# EAGLE library part MICRO_BCU_7_2.54 (library MicroBCU_PCB)
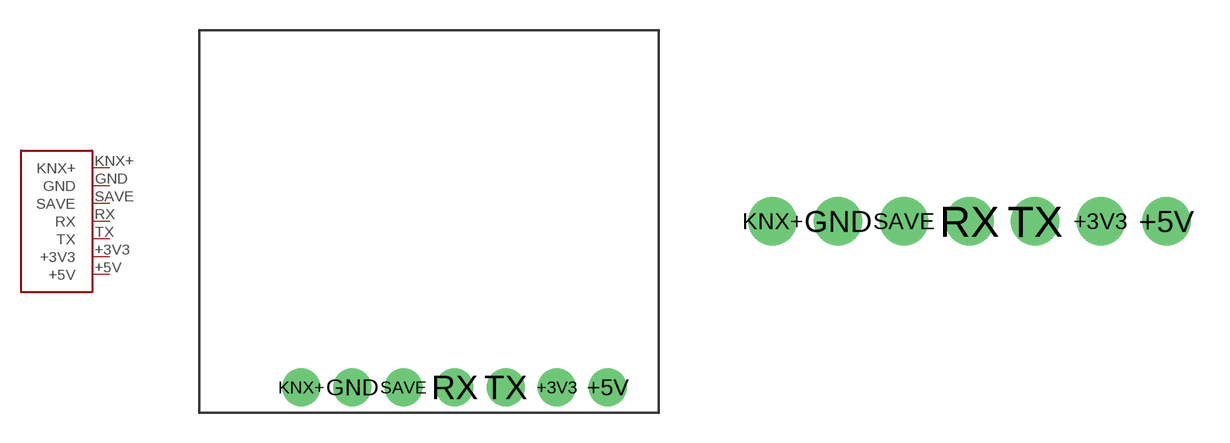
[diagram p1: symbol with the pads of MICRO_BCU_7_2.54_PCB; footprints MICRO_BCU_7_2.54_PCB, MICRO_BCU_7_2.54_PINS]

Designator prefix -

## MICRO_BCU_7_2.54PCB  [MICRO_BCU_7_2.54_PCB]
+3V3  +3V3
+5V  +5V
GND  GND
KNX+  KNX+
RX  RX
SAVE  SAVE
TX  TX

## MICRO_BCU_7_2.54HEADER  [MICRO_BCU_7_2.54_PINS]
Pads as for MICRO_BCU_7_2.54_PCB

## MICRO_BCU_7_2.54DOCU  [MICRO_BCU_7_2.54_DOCU]
Pads as for MICRO_BCU_7_2.54_PCB

## MICRO_BCU_7_2.54DOCU_D1.4  [MICRO_BCU_7_2.54_D1.4_DOCU]
Pads as for MICRO_BCU_7_2.54_PCB

## Footprint MICRO_BCU_7_2.54_PCB (pad centres in mm)
drill 1.016 pad 1.88: +3V3 6.35,-7.62; +5V 8.89,-7.62; GND -3.81,-7.62; KNX+ -6.35,-7.62; RX 1.27,-7.62; SAVE -1.27,-7.62; TX 3.81,-7.62

## Footprint MICRO_BCU_7_2.54_PINS (pad centres in mm)
drill 1.016 pad 1.88: +3V3 12.7,0; +5V 15.24,0; GND 2.54,0; KNX+ 0,0; RX 7.62,0; SAVE 5.08,0; TX 10.16,0

## Footprint MICRO_BCU_7_2.54_DOCU (pad centres in mm)
drill 1.016 pad 1.88: +3V3 6.35,-7.62; +5V 8.89,-7.62; GND -3.81,-7.62; KNX+ -6.35,-7.62; RX 1.27,-7.62; SAVE -1.27,-7.62; TX 3.81,-7.62

## Footprint MICRO_BCU_7_2.54_D1.4_DOCU (pad centres in mm)
drill 1.5 pad 1.93: +3V3 6.35,-7.62; +5V 8.89,-7.62; GND -3.81,-7.62; KNX+ -6.35,-7.62; RX 1.27,-7.62; SAVE -1.27,-7.62; TX 3.81,-7.62